# EAGLE library part DS90CF384 (library di_ic)
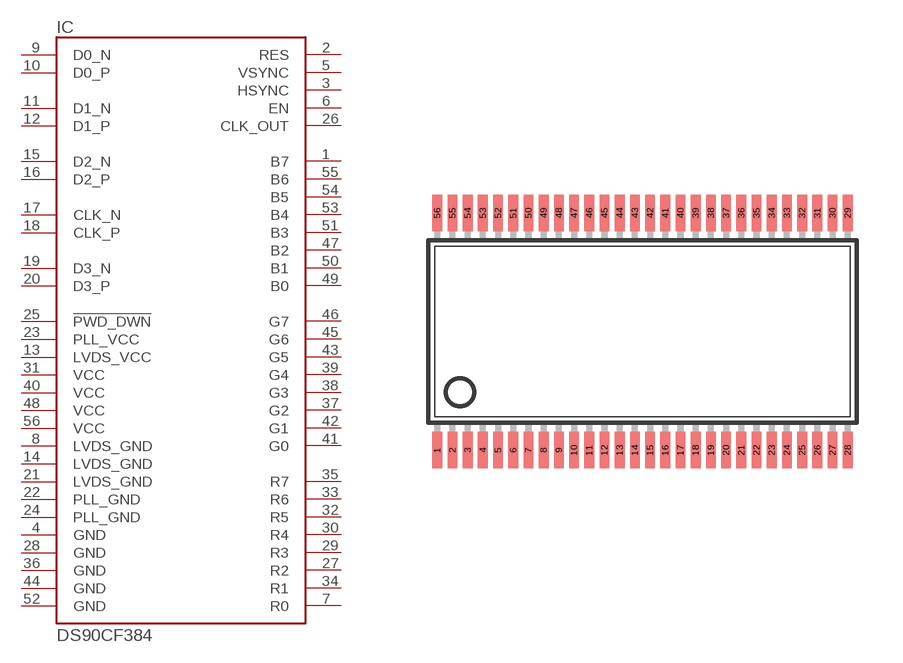
[diagram p69: symbol with the pads of TSSOP56; footprint TSSOP56]

Designator prefix IC

## DS90CF384  [TSSOP56]
1  B7
2  RES
3  HSYNC
4  GND
5  VSYNC
6  EN
7  R0
8  LVDS_GND
9  D0_N
10  D0_P
11  D1_N
12  D1_P
13  LVDS_VCC
14  LVDS_GND
15  D2_N
16  D2_P
17  CLK_N
18  CLK_P
19  D3_N
20  D3_P
21  LVDS_GND
22  PLL_GND
23  PLL_VCC
24  PLL_GND
25  !PWD_DWN
26  CLK_OUT
27  R2
28  GND
29  R3
30  R4
31  VCC
32  R5
33  R6
34  R1
35  R7
36  GND
37  G2
38  G3
39  G4
40  VCC
41  G0
42  G1
43  G5
44  GND
45  G6
46  G7
47  B2
48  VCC
49  B0
50  B1
51  B3
52  GND
53  B4
54  B5
55  B6
56  VCC

## Footprint TSSOP56 (pad centres in mm)
smd 0.32 x 1.2: 1 -6.75,-3.9; 2 -6.25,-3.9; 3 -5.75,-3.9; 4 -5.25,-3.9; 5 -4.75,-3.9; 6 -4.25,-3.9; 7 -3.75,-3.9; 8 -3.25,-3.9; 9 -2.75,-3.9; 10 -2.25,-3.9; 11 -1.75,-3.9; 12 -1.25,-3.9; 13 -0.75,-3.9; 14 -0.25,-3.9; 15 0.25,-3.9; 16 0.75,-3.9; 17 1.25,-3.9; 18 1.75,-3.9; 19 2.25,-3.9; 20 2.75,-3.9; 21 3.25,-3.9; 22 3.75,-3.9; 23 4.25,-3.9; 24 4.75,-3.9; 25 5.25,-3.9; 26 5.75,-3.9; 27 6.25,-3.9; 28 6.75,-3.9; 29 6.75,3.9; 30 6.25,3.9; 31 5.75,3.9; 32 5.25,3.9; 33 4.75,3.9; 34 4.25,3.9; 35 3.75,3.9; 36 3.25,3.9; 37 2.75,3.9; 38 2.25,3.9; 39 1.75,3.9; 40 1.25,3.9; 41 0.75,3.9; 42 0.25,3.9; 43 -0.25,3.9; 44 -0.75,3.9; 45 -1.25,3.9; 46 -1.75,3.9; 47 -2.25,3.9; 48 -2.75,3.9; 49 -3.25,3.9; 50 -3.75,3.9; 51 -4.25,3.9; 52 -4.75,3.9; 53 -5.25,3.9; 54 -5.75,3.9; 55 -6.25,3.9; 56 -6.75,3.9